# EAGLE library part MPC17C724 (library untitled)
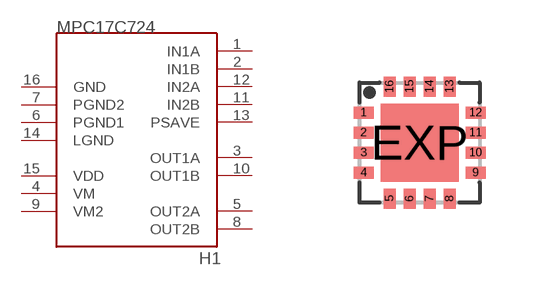
[diagram p0: symbol with the pads of QFN16; footprint QFN16]

Designator prefix -

## MPC17C724  [QFN16]
1  IN1A
2  IN1B
3  OUT1A
4  VM
5  OUT2A
6  PGND1
7  PGND2
8  OUT2B
9  VM2
10  OUT1B
11  IN2B
12  IN2A
13  PSAVE
14  LGND
15  VDD
16  GND

## Footprint QFN16 (pad centres in mm)
QFN 16 3x3 mm Source: www.hittite.com .. hmc492lp3.pdf
smd 0.5 x 0.3: 1 -1.4,0.75; 2 -1.4,0.25; 3 -1.4,-0.25; 4 -1.4,-0.75; 9 1.4,-0.75; 10 1.4,-0.25; 11 1.4,0.25; 12 1.4,0.75
smd 0.3 x 0.5: 5 -0.75,-1.4; 6 -0.25,-1.4; 7 0.25,-1.4; 8 0.75,-1.4; 13 0.75,1.4; 14 0.25,1.4; 15 -0.25,1.4; 16 -0.75,1.4
smd 1.95 x 1.95: EXP 0,0